# EAGLE library part STM32L011F4P6 (library circuit_tree)
IC
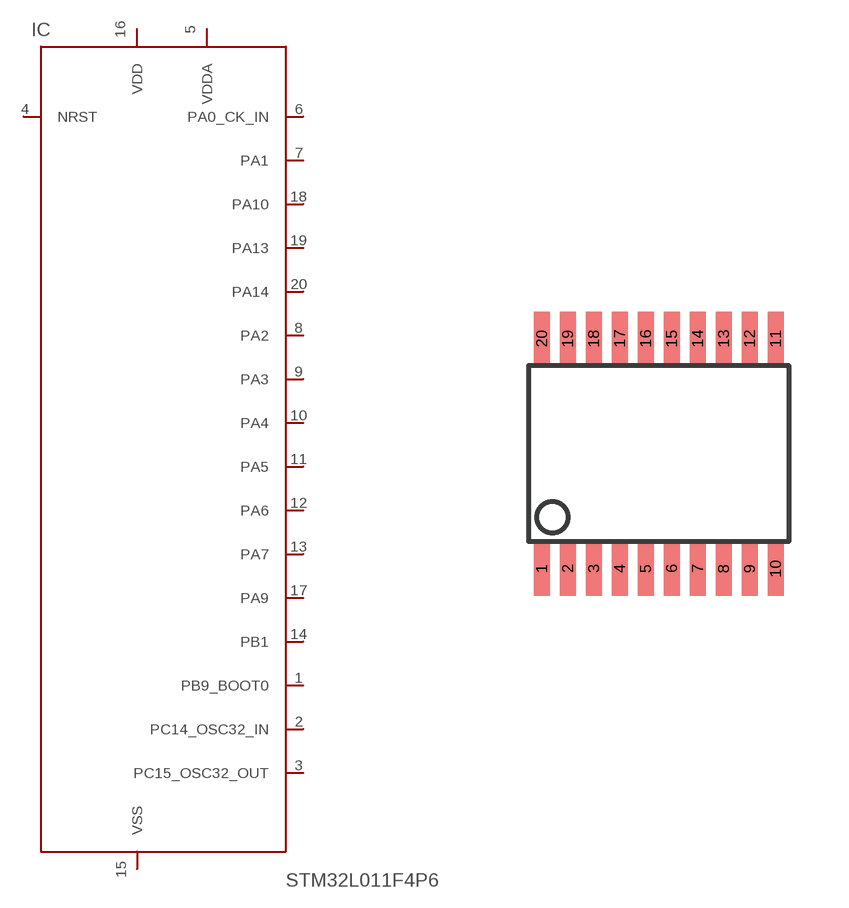
[diagram p6: symbol with the pads of TSSOP20-I; footprint TSSOP20-I]

Designator prefix IC

## STM32L011F4P6  [TSSOP20-I]
1  PB9_BOOT0  pas
2  PC14_OSC32_IN  pas
3  PC15_OSC32_OUT  pas
4  NRST  pas
5  VDDA  pas
6  PA0_CK_IN  pas
7  PA1  pas
8  PA2  pas
9  PA3  pas
10  PA4  pas
11  PA5  pas
12  PA6  pas
13  PA7  pas
14  PB1  pas
15  VSS  pas
16  VDD  pas
17  PA9  pas
18  PA10  pas
19  PA13  pas
20  PA14  pas

## Footprint TSSOP20-I (pad centres in mm)
TSSOP20-I 20-pin thin shrink small outline package
smd 0.4 x 1.35: 1 -2.925,-2.875; 2 -2.275,-2.875; 3 -1.625,-2.875; 4 -0.975,-2.875; 5 -0.325,-2.875; 6 0.325,-2.875; 7 0.975,-2.875; 8 1.625,-2.875; 9 2.275,-2.875; 10 2.925,-2.875; 11 2.925,2.875; 12 2.275,2.875; 13 1.625,2.875; 14 0.975,2.875; 15 0.325,2.875; 16 -0.325,2.875; 17 -0.975,2.875; 18 -1.625,2.875; 19 -2.275,2.875; 20 -2.925,2.875